# EAGLE library part M06 (library GibbotV5)
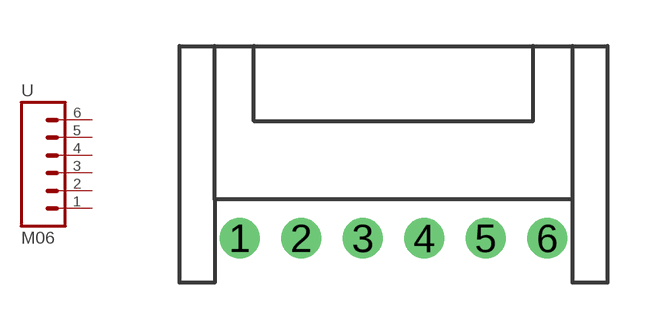
[diagram p17: symbol with the pads of JST-6-PH-TH; footprint JST-6-PH-TH]

Designator prefix -

## M06PH-TH  [JST-6-PH-TH]
1  1  pas
2  2  pas
3  3  pas
4  4  pas
5  5  pas
6  6  pas

## Footprint JST-6-PH-TH (pad centres in mm)
drill 0.8 round: 1 -5,-6.35; 2 -3,-6.35; 3 -1,-6.35; 4 1,-6.35; 5 3,-6.35; 6 5,-6.35